# Altium footprint library generic.PcbLib: 24 footprints (part 2 of 2)
Each footprint in its own frame and in the unit in brackets; x right, y up, seen from the top. Pads: shape width x height; smd on the part's side, far side on the other; paste and mask are expansions set on the pad; w line width, h text height; cw(c..) or ccw(c..) is an arc to the next point about the centre after c.
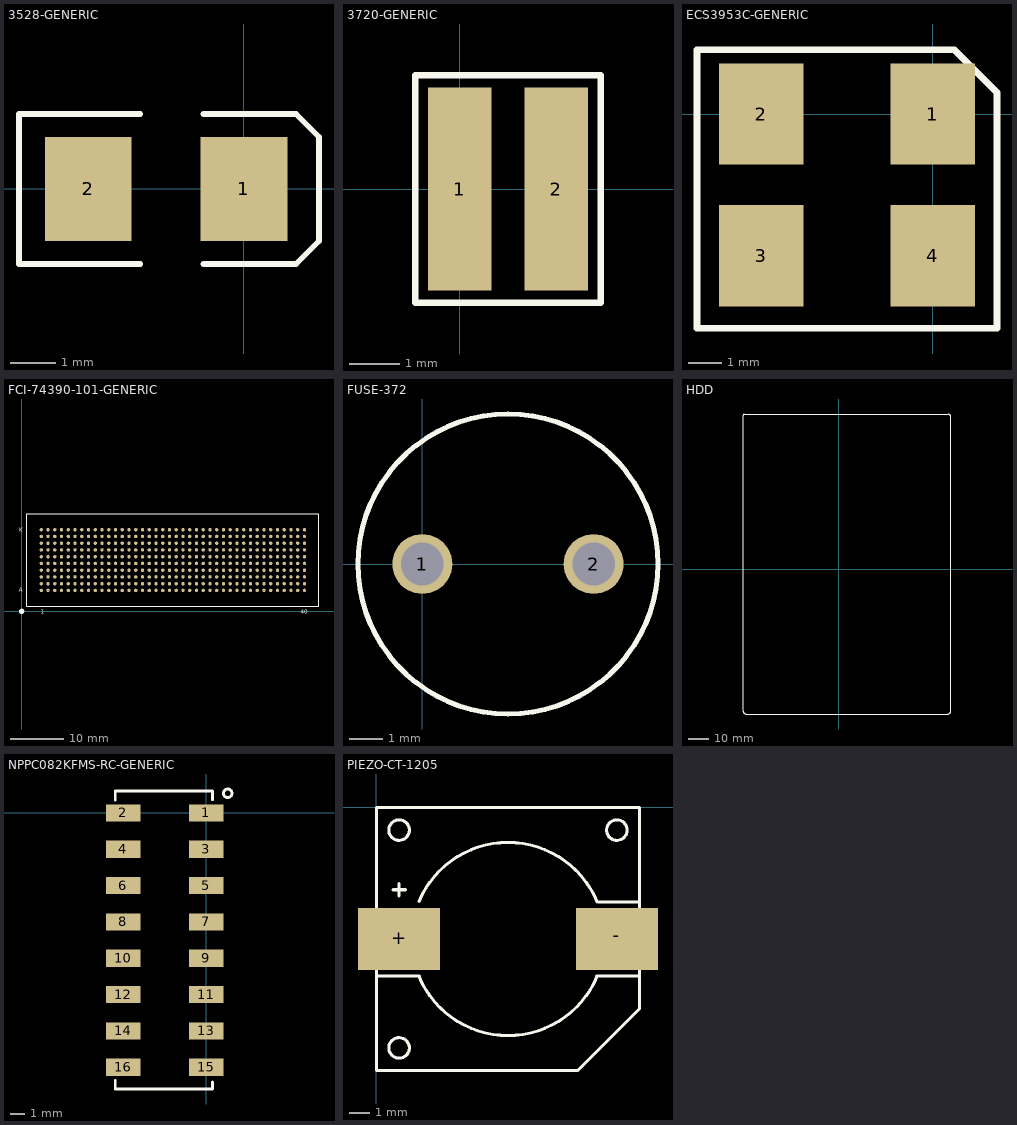
[diagram p1: the footprints below, top view; thin cyan lines are the x and y axes]

## 3528-GENERIC [mil]
pads (2):
  rect 75x90 smd: 1(0,0) 2(-135,0)
Top Overlay:
  lines w5: -90,-65 -195,-65 -195,65 -90,65 ; -35,-65 45,-65 65,-45 65,45 45,65 -35,65

## 3720-GENERIC [mil]
pads (2):
  rect 50x160 smd: 1(0,0) 2(76,0)
Top Overlay:
  lines w5: -24.99,-89.43 110.99,-89.43 ; 110.99,-89.43 -34.99,-89.43 -34.99,0 -34.99,89.43 110.99,89.43 110.99,-89.43

## ECS3953C-GENERIC [mm]
pads (4):
  rect 2.5x3 smd: 1(0,0) 2(-5.08,0) 3(-5.08,-4.2) 4(0,-4.2)
Top Overlay:
  lines w0.203: -6.985,-6.35 -6.985,1.905 0.635,1.905 1.905,0.635 1.905,-6.35 -6.985,-6.35

## FCI-74390-101-GENERIC [mm]
pads (401):
  round 1 on Top Overlay: 1(0,0)
  round 0.64 smd: A1(3.683,3.937) A2(4.953,3.937) A3(6.223,3.937) A4(7.493,3.937) A5(8.763,3.937) A6(10.033,3.937) A7(11.303,3.937) A8(12.573,3.937) A9(13.843,3.937) A10(15.113,3.937) A11(16.383,3.937) A12(17.653,3.937) A13(18.923,3.937) A14(20.193,3.937) A15(21.463,3.937) A16(22.733,3.937) A17(24.003,3.937) A18(25.273,3.937) A19(26.543,3.937) A20(27.813,3.937) A21(29.083,3.937) A22(30.353,3.937) A23(31.623,3.937) A24(32.893,3.937) A25(34.163,3.937) A26(35.433,3.937) A27(36.703,3.937) A28(37.973,3.937) A29(39.243,3.937) A30(40.513,3.937) A31(41.783,3.937) A32(43.053,3.937) A33(44.323,3.937) A34(45.593,3.937) A35(46.863,3.937) A36(48.133,3.937) A37(49.403,3.937) A38(50.673,3.937) A39(51.943,3.937) A40(53.213,3.937) B1(3.683,5.207) B2(4.953,5.207) B3(6.223,5.207) B4(7.493,5.207) B5(8.763,5.207) B6(10.033,5.207) B7(11.303,5.207) B8(12.573,5.207) B9(13.843,5.207) B10(15.113,5.207) B11(16.383,5.207) B12(17.653,5.207) B13(18.923,5.207) B14(20.193,5.207) B15(21.463,5.207) B16(22.733,5.207) B17(24.003,5.207) B18(25.273,5.207) B19(26.543,5.207) B20(27.813,5.207) B21(29.083,5.207) B22(30.353,5.207) B23(31.623,5.207) B24(32.893,5.207) B25(34.163,5.207) B26(35.433,5.207) B27(36.703,5.207) B28(37.973,5.207) B29(39.243,5.207) B30(40.513,5.207) B31(41.783,5.207) B32(43.053,5.207) B33(44.323,5.207) B34(45.593,5.207) B35(46.863,5.207) B36(48.133,5.207) B37(49.403,5.207) B38(50.673,5.207) B39(51.943,5.207) B40(53.213,5.207) C1(3.683,6.477) C2(4.953,6.477) C3(6.223,6.477) C4(7.493,6.477) C5(8.763,6.477) C6(10.033,6.477) C7(11.303,6.477) C8(12.573,6.477) C9(13.843,6.477) C10(15.113,6.477) C11(16.383,6.477) C12(17.653,6.477) C13(18.923,6.477) C14(20.193,6.477) C15(21.463,6.477) C16(22.733,6.477) C17(24.003,6.477) C18(25.273,6.477) C19(26.543,6.477) C20(27.813,6.477) C21(29.083,6.477) C22(30.353,6.477) C23(31.623,6.477) C24(32.893,6.477) C25(34.163,6.477) C26(35.433,6.477) C27(36.703,6.477) C28(37.973,6.477) C29(39.243,6.477) C30(40.513,6.477) C31(41.783,6.477) C32(43.053,6.477) C33(44.323,6.477) C34(45.593,6.477) C35(46.863,6.477) C36(48.133,6.477) C37(49.403,6.477) C38(50.673,6.477) C39(51.943,6.477) C40(53.213,6.477) D1(3.683,7.747) D2(4.953,7.747) D3(6.223,7.747) D4(7.493,7.747) D5(8.763,7.747) D6(10.033,7.747) D7(11.303,7.747) D8(12.573,7.747) D9(13.843,7.747) D10(15.113,7.747) D11(16.383,7.747) D12(17.653,7.747) D13(18.923,7.747) D14(20.193,7.747) D15(21.463,7.747) D16(22.733,7.747) D17(24.003,7.747) D18(25.273,7.747) D19(26.543,7.747) D20(27.813,7.747) D21(29.083,7.747) D22(30.353,7.747) D23(31.623,7.747) D24(32.893,7.747) D25(34.163,7.747) D26(35.433,7.747) D27(36.703,7.747) D28(37.973,7.747) D29(39.243,7.747) D30(40.513,7.747) D31(41.783,7.747) D32(43.053,7.747) D33(44.323,7.747) D34(45.593,7.747) D35(46.863,7.747) D36(48.133,7.747) D37(49.403,7.747) D38(50.673,7.747) D39(51.943,7.747) D40(53.213,7.747) E1(3.683,9.017) E2(4.953,9.017) E3(6.223,9.017) E4(7.493,9.017) E5(8.763,9.017) E6(10.033,9.017) E7(11.303,9.017) E8(12.573,9.017) E9(13.843,9.017) E10(15.113,9.017) E11(16.383,9.017) E12(17.653,9.017) E13(18.923,9.017) E14(20.193,9.017) E15(21.463,9.017) E16(22.733,9.017) E17(24.003,9.017) E18(25.273,9.017) E19(26.543,9.017) E20(27.813,9.017) E21(29.083,9.017) E22(30.353,9.017) E23(31.623,9.017) E24(32.893,9.017) E25(34.163,9.017) E26(35.433,9.017) E27(36.703,9.017) E28(37.973,9.017) E29(39.243,9.017) E30(40.513,9.017) E31(41.783,9.017) E32(43.053,9.017) E33(44.323,9.017) E34(45.593,9.017) E35(46.863,9.017) E36(48.133,9.017) E37(49.403,9.017) E38(50.673,9.017) E39(51.943,9.017) E40(53.213,9.017) F1(3.683,10.287) F2(4.953,10.287) F3(6.223,10.287) F4(7.493,10.287) F5(8.763,10.287) F6(10.033,10.287) F7(11.303,10.287) F8(12.573,10.287) F9(13.843,10.287) F10(15.113,10.287) F11(16.383,10.287) F12(17.653,10.287) F13(18.923,10.287) F14(20.193,10.287) F15(21.463,10.287) F16(22.733,10.287) F17(24.003,10.287) F18(25.273,10.287) F19(26.543,10.287) F20(27.813,10.287) F21(29.083,10.287) F22(30.353,10.287) F23(31.623,10.287) F24(32.893,10.287) F25(34.163,10.287) F26(35.433,10.287) F27(36.703,10.287) F28(37.973,10.287) F29(39.243,10.287) F30(40.513,10.287) F31(41.783,10.287) F32(43.053,10.287) F33(44.323,10.287) F34(45.593,10.287) F35(46.863,10.287) F36(48.133,10.287) F37(49.403,10.287) F38(50.673,10.287) F39(51.943,10.287) F40(53.213,10.287) G1(3.683,11.557) G2(4.953,11.557) G3(6.223,11.557) G4(7.493,11.557) G5(8.763,11.557) G6(10.033,11.557) G7(11.303,11.557) G8(12.573,11.557) G9(13.843,11.557) G10(15.113,11.557) G11(16.383,11.557) G12(17.653,11.557) G13(18.923,11.557) G14(20.193,11.557) G15(21.463,11.557) G16(22.733,11.557) G17(24.003,11.557) G18(25.273,11.557) G19(26.543,11.557) G20(27.813,11.557) G21(29.083,11.557) G22(30.353,11.557) G23(31.623,11.557) G24(32.893,11.557) G25(34.163,11.557) G26(35.433,11.557) G27(36.703,11.557) G28(37.973,11.557) G29(39.243,11.557) G30(40.513,11.557) G31(41.783,11.557) G32(43.053,11.557) G33(44.323,11.557) G34(45.593,11.557) G35(46.863,11.557) G36(48.133,11.557) G37(49.403,11.557) G38(50.673,11.557) G39(51.943,11.557) G40(53.213,11.557) H1(3.683,12.827) H2(4.953,12.827) H3(6.223,12.827) H4(7.493,12.827) H5(8.763,12.827) H6(10.033,12.827) H7(11.303,12.827) H8(12.573,12.827) H9(13.843,12.827) H10(15.113,12.827) H11(16.383,12.827) H12(17.653,12.827) H13(18.923,12.827) H14(20.193,12.827) H15(21.463,12.827) H16(22.733,12.827) H17(24.003,12.827) H18(25.273,12.827) H19(26.543,12.827) H20(27.813,12.827) H21(29.083,12.827) H22(30.353,12.827) H23(31.623,12.827) H24(32.893,12.827) H25(34.163,12.827) H26(35.433,12.827) H27(36.703,12.827) H28(37.973,12.827) H29(39.243,12.827) H30(40.513,12.827) H31(41.783,12.827) H32(43.053,12.827) H33(44.323,12.827) H34(45.593,12.827) H35(46.863,12.827) H36(48.133,12.827) H37(49.403,12.827) H38(50.673,12.827) H39(51.943,12.827) H40(53.213,12.827) J1(3.683,14.097) J2(4.953,14.097) J3(6.223,14.097) J4(7.493,14.097) J5(8.763,14.097) J6(10.033,14.097) J7(11.303,14.097) J8(12.573,14.097) J9(13.843,14.097) J10(15.113,14.097) J11(16.383,14.097) J12(17.653,14.097) J13(18.923,14.097) J14(20.193,14.097) J15(21.463,14.097) J16(22.733,14.097) J17(24.003,14.097) J18(25.273,14.097) J19(26.543,14.097) J20(27.813,14.097) J21(29.083,14.097) J22(30.353,14.097) J23(31.623,14.097) J24(32.893,14.097) J25(34.163,14.097) J26(35.433,14.097) J27(36.703,14.097) J28(37.973,14.097) J29(39.243,14.097) J30(40.513,14.097) J31(41.783,14.097) J32(43.053,14.097) J33(44.323,14.097) J34(45.593,14.097) J35(46.863,14.097) J36(48.133,14.097) J37(49.403,14.097) J38(50.673,14.097) J39(51.943,14.097) J40(53.213,14.097) K1(3.683,15.367) K2(4.953,15.367) K3(6.223,15.367) K4(7.493,15.367) K5(8.763,15.367) K6(10.033,15.367) K7(11.303,15.367) K8(12.573,15.367) K9(13.843,15.367) K10(15.113,15.367) K11(16.383,15.367) K12(17.653,15.367) K13(18.923,15.367) K14(20.193,15.367) K15(21.463,15.367) K16(22.733,15.367) K17(24.003,15.367) K18(25.273,15.367) K19(26.543,15.367) K20(27.813,15.367) K21(29.083,15.367) K22(30.353,15.367) K23(31.623,15.367) K24(32.893,15.367) K25(34.163,15.367) K26(35.433,15.367) K27(36.703,15.367) K28(37.973,15.367) K29(39.243,15.367) K30(40.513,15.367) K31(41.783,15.367) K32(43.053,15.367) K33(44.323,15.367) K34(45.593,15.367) K35(46.863,15.367) K36(48.133,15.367) K37(49.403,15.367) K38(50.673,15.367) K39(51.943,15.367) K40(53.213,15.367)
Top Overlay:
  lines w0.2: 0.948,0.982 55.948,0.982 55.948,18.322 0.948,18.322 0.948,0.982
  text "A" at 0.203,3.658 h0.76
  text "K" at -0.508,15.748 h0.76
  text "1" at 3.581,-0.432 h0.76
  text "40" at 52.476,-0.432 h0.76

## FUSE-372 [mil]
pads (2):
  round 70 hole 50 unplated mask+2: 1(0,0) 2(200,0)
Top Overlay:
  circle w6: c100,0 r175
3D body: height 314.96, standoff 0, extent -66,-166.99 267.33,167

## HDD [mil] "harddisk drive"
Top Overlay:
  lines w4: -1842.5,-2738.5 ccw(c-1792.5,-2738.5) -1792.5,-2788.5 2107.5,-2788.5 ccw(c2107.5,-2738.5) 2157.5,-2738.5 2157.5,2948.5 ccw(c2107.5,2948.5) 2107.5,2998.5 -1804,2998.5 -1820,2998.5 ccw(c-1820,2976) -1842.5,2976 -1842.5,-2738.5
3D body: height 1027.95, standoff 0, extent -1842.5,-2788.28 2157.5,2998.33

## NPPC082KFMS-RC-GENERIC [mm]
pads (16):
  rect 2.4x1.2 smd: 1(0,0) 2(-5.8,0) 3(0,-2.54) 4(-5.8,-2.54) 5(0,-5.08) 6(-5.8,-5.08) 7(0,-7.62) 8(-5.8,-7.62) 9(0,-10.16) 10(-5.8,-10.16) 11(0,-12.7) 12(-5.8,-12.7) 13(0,-15.24) 14(-5.8,-15.24) 15(0,-17.78) 16(-5.8,-17.78)
Top Overlay:
  circle w0.2: c1.515,1.372 r0.3
  lines w0.127: 0.45,-19.3 0.453,-19.297
  lines w0.2: -6.35,-18.699 -6.35,-19.3 0.45,-19.3 0.45,-18.799 ; -6.35,0.914 -6.35,1.52 0.45,1.52 0.45,0.922

## PIEZO-CT-1205 [mm]
pads (2):
  rect 4x3 smd mask+0.051: +(1.1,-6.4) -(11.7,-6.4)
Top Overlay:
  circle w0.152: c1.1,-11.7 r0.5
  circle w0.152: c11.7,-1.1 r0.5
  circle w0.152: c1.1,-1.1 r0.5
  lines w0.152: 0,-8.2 2.1,-8.2 ; 0.8,-4 1.4,-4 ; 1.1,-4.3 1.1,-3.7 ; 2.065,-8.215 ccw(c6.4,-6.4) 10.734,-8.218 ; 2.066,-4.582 cw(c6.4,-6.4) 10.735,-4.585 ; 10.7,-8.2 12.7,-8.2 ; 10.8,-4.6 12.8,-4.6 ; 12.8,-9.7 12.8,0 0,0 0,-12.8 9.8,-12.8 12.8,-9.8 12.8,-7.4
3D body: height 9.1, standoff 9, extent 4.6,-8 7.9,-4.8
3D body: height 10.01, standoff 10, extent 0.7,-4.4 1.5,-3.6
3D body: height 0.76, standoff 0, extent 10.7,-7.3 13.2,-5.6
3D body: height 0.76, standoff 0, extent -0.4,-7.3 2.1,-5.6
3D body: height 9, standoff 0.1, extent 0,-12.8 12.8,0
3D body: height 10, standoff 9, extent 0,-12.8 12.8,0